# Altium footprint library resistor.PCBLIB: 427 footprints (part 18 of 27)
Each footprint in its own frame and in the unit in brackets; x right, y up, seen from the top. Pads: shape width x height; smd on the part's side, far side on the other; paste and mask are expansions set on the pad; w line width, h text height; cw(c..) or ccw(c..) is an arc to the next point about the centre after c.
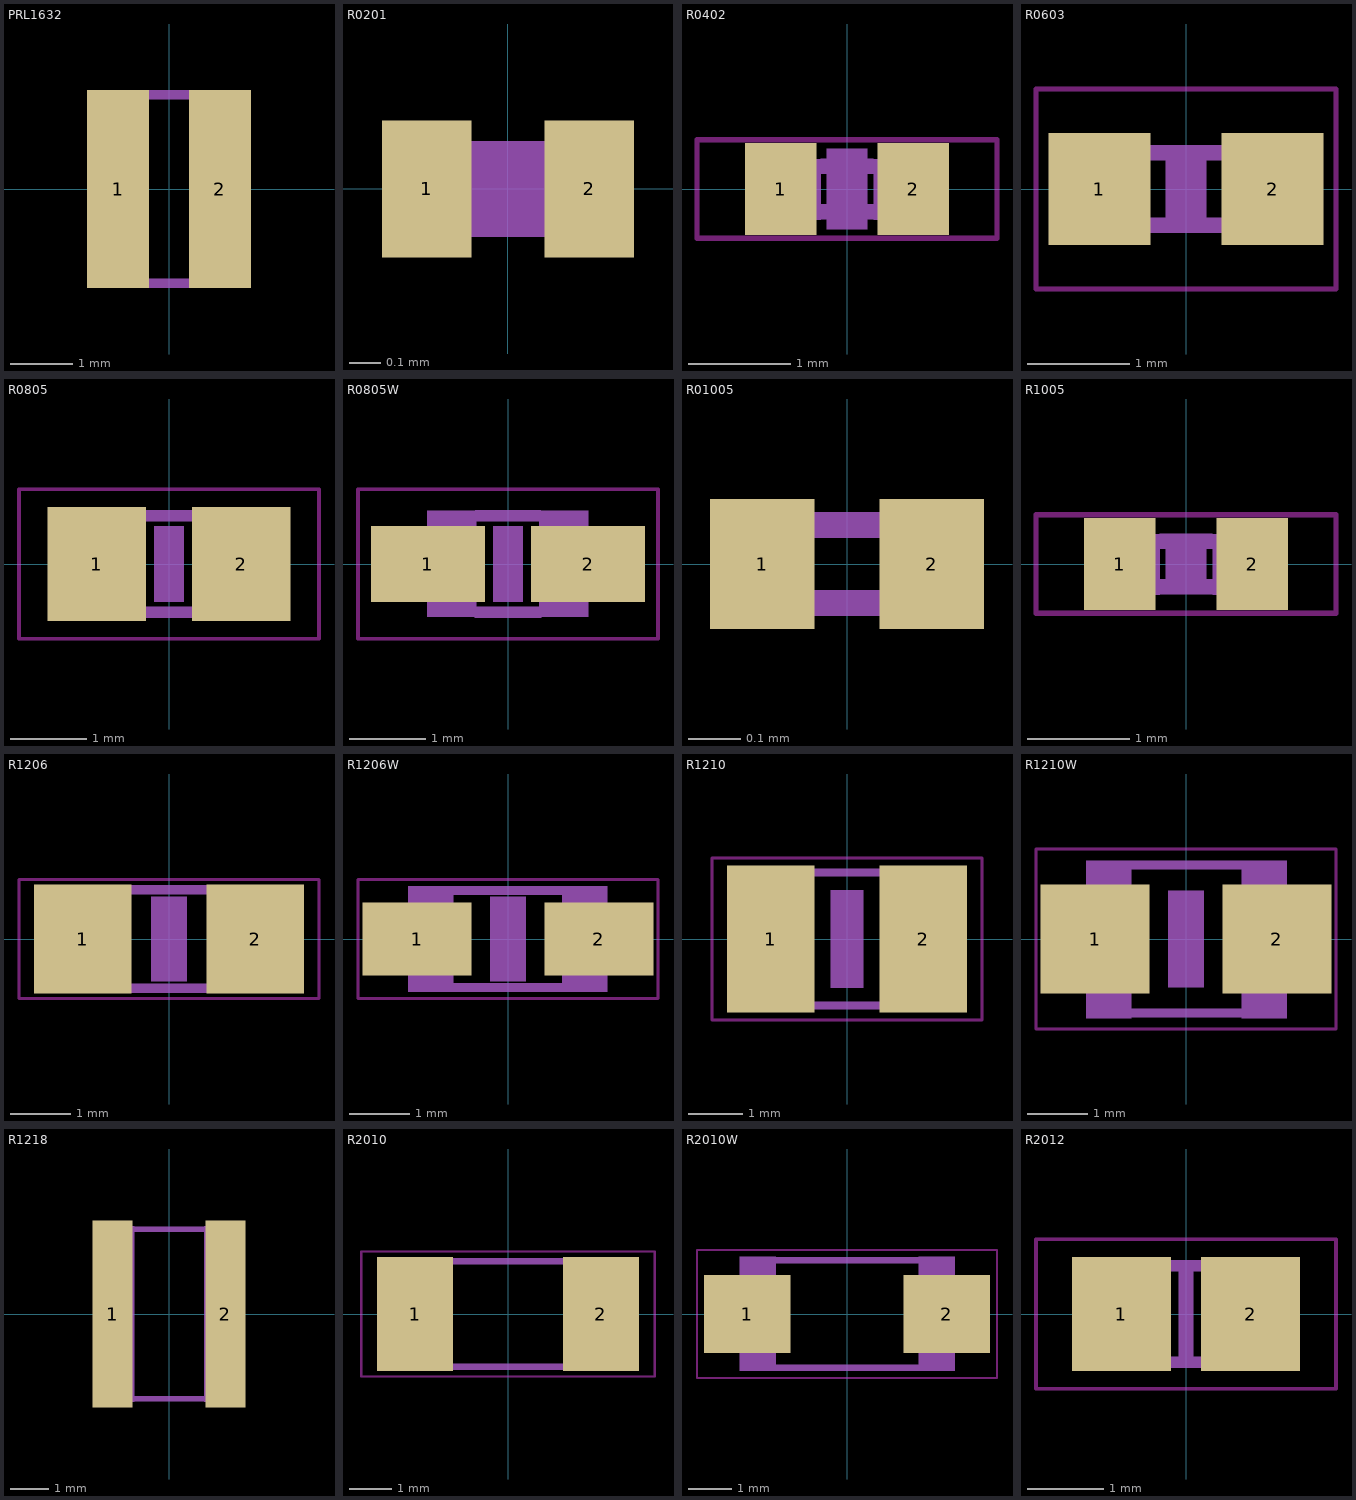
[diagram p17: the footprints below, top view; thin cyan lines are the x and y axes]

## PRL1632 [mm]
pads (2):
  rect 1x3.2 smd: 1(-0.822,0) 2(0.822,0)
Mechanical 18:
  rectangle: -0.8,-1.6 -0.4,1.6
  rectangle: 0.4,-1.6 0.8,1.6
  lines w0.152: -0.728,-1.523 0.727,-1.523 ; -0.715,1.523 0.727,1.523

## R0201 [mm]
pads (2):
  rect 0.28x0.43 smd: 1(-0.255,0) 2(0.255,0)
Mechanical 2:
  rectangle: -0.15,-0.15 0.15,0.15
Mechanical 18:
  rectangle: -0.3,-0.15 -0.15,0.15
  rectangle: 0.15,-0.15 0.3,0.15

## R0402 [mm]
pads (2):
  rect 0.7x0.9 smd: 1(-0.65,0) 2(0.65,0)
Keep-Out Layer:
  lines w0.051: -1.473,-0.483 1.473,-0.483 1.473,0.483 -1.473,0.483 -1.473,-0.483
Mechanical 8:
  rectangle: -0.2,-0.4 0.2,0.4
Mechanical 18:
  rectangle: -0.554,-0.305 -0.254,0.295
  rectangle: 0.259,-0.305 0.559,0.295
  lines w0.152: -0.245,-0.224 0.245,-0.224 ; -0.245,0.224 0.245,0.224

## R0603 [mm]
pads (2):
  rect 1x1.1 smd: 1(-0.85,0) 2(0.85,0)
Keep-Out Layer:
  lines w0.051: -1.473,-0.983 1.473,-0.983 1.473,0.983 -1.473,0.983 -1.473,-0.983
Mechanical 8:
  rectangle: -0.2,-0.4 0.2,0.4
Mechanical 18:
  rectangle: 0.432,-0.432 0.838,0.432
  rectangle: -0.838,-0.432 -0.432,0.432
  lines w0.152: -0.432,-0.356 0.432,-0.356 ; -0.432,0.356 0.432,0.356

## R0805 [mil]
pads (2):
  rect 51.18x59.06 smd: 1(-37.4,0) 2(37.4,0)
Keep-Out Layer:
  lines w2: -77.68,-38.7 77.68,-38.7 77.68,38.7 -77.68,38.7 -77.68,-38.7
Mechanical 8:
  rectangle: -7.87,-19.69 7.87,19.69
Mechanical 18:
  rectangle: 16,-27.5 41.59,27.62
  rectangle: -42,-27.5 -16.41,27.62
  lines w6: -16.14,-25 16.14,-25 ; -16.14,25 16.14,25

## R0805W [mm]
pads (2):
  rect 1.5x1 smd: 1(-1.053,0) 2(1.053,0)
Keep-Out Layer:
  lines w0.051: -1.973,-0.983 1.973,-0.983 1.973,0.983 -1.973,0.983 -1.973,-0.983
Mechanical 8:
  rectangle: -0.2,-0.5 0.2,0.5
Mechanical 18:
  rectangle: 0.406,-0.699 1.056,0.702
  rectangle: -1.067,-0.699 -0.417,0.702
  lines w0.152: -0.41,-0.635 0.41,-0.635 ; -0.41,0.635 0.41,0.635

## R01005 [mil]
pads (2):
  rect 7.87x9.84 smd: 1(-6.4,0) 2(6.4,0)
Mechanical 18:
  rectangle: -7.87,-3.94 -2.95,3.94
  rectangle: 2.95,-3.94 7.87,3.94
  rectangle: -5.91,1.97 5.91,3.94
  rectangle: -5.91,-3.94 5.91,-1.97

## R1005 [mm]
pads (2):
  rect 0.7x0.9 smd: 1(-0.65,0) 2(0.65,0)
Keep-Out Layer:
  lines w0.051: -1.473,-0.483 1.473,-0.483 1.473,0.483 -1.473,0.483 -1.473,-0.483
Mechanical 8:
  rectangle: -0.2,-0.3 0.2,0.3
Mechanical 18:
  rectangle: -0.554,-0.305 -0.254,0.295
  rectangle: 0.259,-0.305 0.559,0.295
  lines w0.152: -0.245,-0.224 0.245,-0.224 ; -0.245,0.224 0.245,0.224

## R1206 [mil]
pads (2):
  rect 62.99x70.98 smd: 1(-55.98,0) 2(55.98,0)
Keep-Out Layer:
  lines w2: -97.36,-38.7 97.36,-38.7 97.36,38.7 -97.36,38.7 -97.36,-38.7
Mechanical 8:
  rectangle: -11.81,-27.56 11.81,27.56
Mechanical 18:
  rectangle: -66.5,-34.5 -37.5,34.5
  rectangle: 37.5,-34.5 66.5,34.5
  lines w6: -38,-32 37.5,-32 ; -38,32 37.5,32

## R1206W [mil]
pads (2):
  rect 70.87x47.24 smd: 1(-59.02,0) 2(59.02,0)
Keep-Out Layer:
  lines w2: -97.36,-38.7 97.36,-38.7 97.36,38.7 -97.36,38.7 -97.36,-38.7
Mechanical 8:
  rectangle: -11.81,-27.56 11.81,27.56
Mechanical 18:
  rectangle: -65,-34.5 -35.47,34.4
  rectangle: 35,-34.5 64.53,34.4
  lines w6: -35.94,-31.5 34.96,-31.5 ; -35.94,31.5 34.96,31.5

## R1210 [mil]
pads (2):
  rect 62.99x106.3 smd: 1(-55.12,0) 2(55.12,0)
Keep-Out Layer:
  lines w2: -97.36,-58.39 97.36,-58.39 97.36,58.39 -97.36,58.39 -97.36,-58.39
Mechanical 8:
  rectangle: -11.81,-35.43 11.81,35.43
Mechanical 18:
  rectangle: -65,-51.5 -35.47,50.86
  rectangle: 36,-51.5 65.53,50.86
  lines w6: -35.94,-47.99 36.97,-47.99 ; -35.94,47.99 36.97,47.99

## R1210W [mil]
pads (2):
  rect 70.87x70.87 smd: 1(-59.02,0) 2(59.02,0)
Keep-Out Layer:
  lines w2: -97.36,-58.39 97.36,-58.39 97.36,58.39 -97.36,58.39 -97.36,-58.39
Mechanical 8:
  rectangle: -11.81,-31.5 11.81,31.5
Mechanical 18:
  rectangle: -65,-51.5 -35.47,50.86
  rectangle: 36,-51.5 65.53,50.86
  lines w6: -35.94,-47.99 36.97,-47.99 ; -35.94,47.99 36.97,47.99

## R1218 [mil]
pads (2):
  rect 41.34x192.91 smd: 1(-58.07,0) 2(58.07,0)
Mechanical 18:
  rectangle: -65,-90.55 -35.47,90.55
  rectangle: 36,-90.55 65.53,90.55
  lines w6: -36.97,87.36 35.94,87.36 ; -35.94,-87.36 36.97,-87.36

## R2010 [mil]
pads (2):
  rect 70.87x106.3 smd: 1(-86.61,0) 2(86.61,0)
Keep-Out Layer:
  lines w2: -136.73,-58.39 136.73,-58.39 136.73,58.39 -136.73,58.39 -136.73,-58.39
Mechanical 18:
  rectangle: -98,-52 -64.54,52.33
  rectangle: 65,-52 98.46,52.33
  lines w6: -65.43,49.02 65.43,49.02 ; -64.45,-49.02 66.42,-49.02

## R2010W [mm]
pads (2):
  rect 2x1.8 smd: 1(-2.311,0) 2(2.311,0)
Keep-Out Layer:
  lines w0.051: -3.473,-1.483 3.473,-1.483 3.473,1.483 -3.473,1.483 -3.473,-1.483
Mechanical 18:
  rectangle: -2.489,-1.321 -1.639,1.329
  rectangle: 1.651,-1.321 2.501,1.329
  lines w0.152: -1.662,1.245 1.662,1.245 ; -1.637,-1.245 1.687,-1.245

## R2012 [mil]
pads (2):
  rect 51.18x59.06 smd: 1(-33.46,0) 2(33.46,0)
Keep-Out Layer:
  lines w2: -77.68,-38.7 77.68,-38.7 77.68,38.7 -77.68,38.7 -77.68,-38.7
Mechanical 8:
  rectangle: -3.94,-23.62 3.94,23.62
Mechanical 18:
  rectangle: 16,-27.5 41.59,27.62
  rectangle: -42,-27.5 -16.41,27.62
  lines w6: -16.14,-25 16.14,-25 ; -16.14,25 16.14,25